# Altium footprint library SW SLIDE SMALL.PcbLib: 1 footprints
Each footprint in its own frame and in the unit in brackets; x right, y up, seen from the top. Pads: shape width x height; smd on the part's side, far side on the other; paste and mask are expansions set on the pad; w line width, h text height; cw(c..) or ccw(c..) is an arc to the next point about the centre after c.
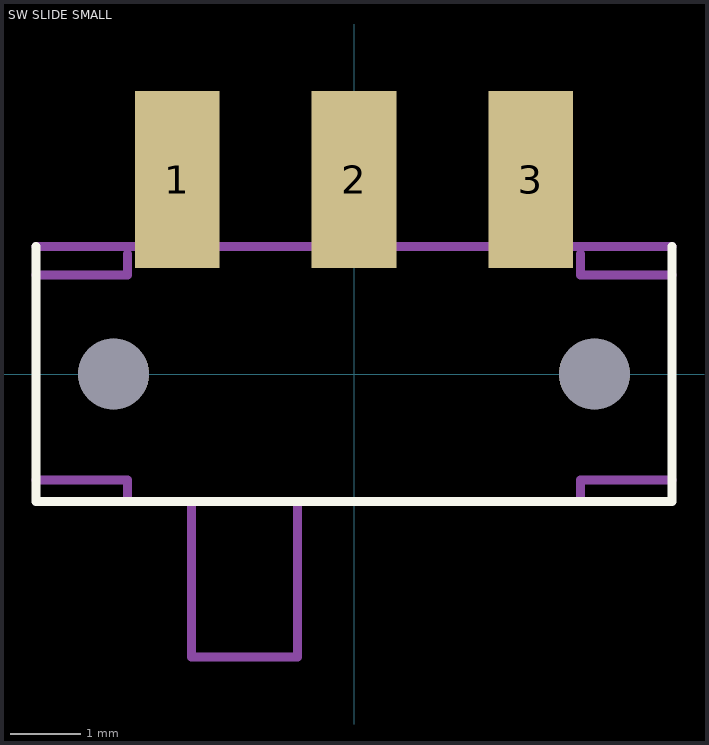
[diagram p0: the footprint, top view; thin cyan lines are the x and y axes]

## SW SLIDE SMALL [mm]
pads (5):
  rect 1.2x2.5 smd: 1(-2.5,2.75) 2(0,2.75) 3(2.5,2.75)
  round 1 hole 1 unplated: ""(-3.4,0) ""(3.4,0)
Top Overlay:
  lines w0.127: -4.5,1.8 -4.5,-1.8 4.5,-1.8 4.5,1.8
Mechanical 13:
  region: -2.2,1.801 -2.801,1.801 -2.801,3.7 -2.2,3.7
  region: -2.2,1.801 -2.801,1.801 -2.801,3.7 -2.2,3.7
  region: 0.3,1.8 -0.3,1.8 -0.3,3.7 0.3,3.7
  region: 2.8,1.803 2.204,1.803 2.204,3.7 2.8,3.7
  lines w0.127: -4.5,-1.5 -3.2,-1.5 -3.2,-1.8 ; -4.5,1.4 -3.2,1.4 -3.2,1.7 ; -4.5,1.8 4.5,1.8 ; -2.3,-1.8 -2.3,-4 -0.8,-4 -0.8,-1.8 ; 3.2,-1.8 3.2,-1.5 4.5,-1.5 ; 3.2,1.7 3.2,1.4 4.5,1.4
3D body "JS102011SAQN--3DModel-Eagle-1.STEP": height 3.51, standoff -0.79, extent -4.5,-3.75 4.5,3.75